# Altium footprint library RESC160X85X55L25N.PcbLib: 1 footprints
Each footprint in its own frame and in the unit in brackets; x right, y up, seen from the top. Pads: shape width x height; smd on the part's side, far side on the other; paste and mask are expansions set on the pad; w line width, h text height; cw(c..) or ccw(c..) is an arc to the next point about the centre after c.
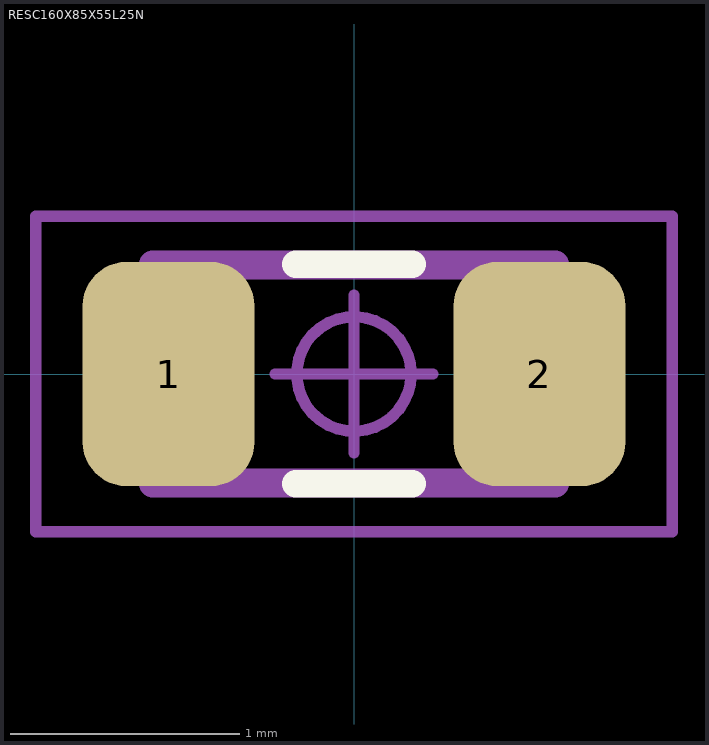
[diagram p0: the footprint, top view; thin cyan lines are the x and y axes]

## RESC160X85X55L25N [mm] "Resistor, Chip; 1.60 mm L X 0.85 mm W X 0.55 mm H body"
height 0.55
pads (2):
  rrect51% 0.75x0.98 smd: 1(-0.81,0) 2(0.81,0)
Top Overlay:
  lines w0.12: -0.255,-0.48 0.255,-0.48 ; -0.255,0.48 0.255,0.48
Mechanical 3:
  lines w0.12: -0.88,-0.48 -0.88,0.48 0.88,0.48 0.88,-0.48 -0.88,-0.48
Mechanical 5:
  lines w0.025: -0.8,-0.425 -0.55,-0.425 -0.55,0.425 -0.8,0.425 ; -0.8,-0.425 -0.8,0.425 ; -0.8,-0.425 -0.8,0.425 ; -0.8,-0.425 0.8,-0.425 ; -0.8,0.425 0.8,0.425 ; 0.8,-0.425 0.8,0.425 ; 0.8,-0.425 0.55,-0.425 0.55,0.425 0.8,0.425 ; 0.8,-0.425 0.8,0.425
Mechanical 7:
  circle w0.05: c0,0 r0.25
  lines w0.05: -0.345,0 0.345,0 ; 0,-0.345 0,0.345 ; -1.39,-0.69 -1.39,0.69 1.39,0.69 1.39,-0.69 -1.39,-0.69
Mechanical 9:
  text "'.Designator'" at -5.588,-0.254 h1
3D body "RESC160X85X55L25.STEP": height 0.55, standoff 0, extent -0.8,-0.425 0.8,0.425
3D body: height 22.61, standoff -7.34, extent -1.39,-0.69 1.39,0.69